# EAGLE library part MM7150 (library kotuku)
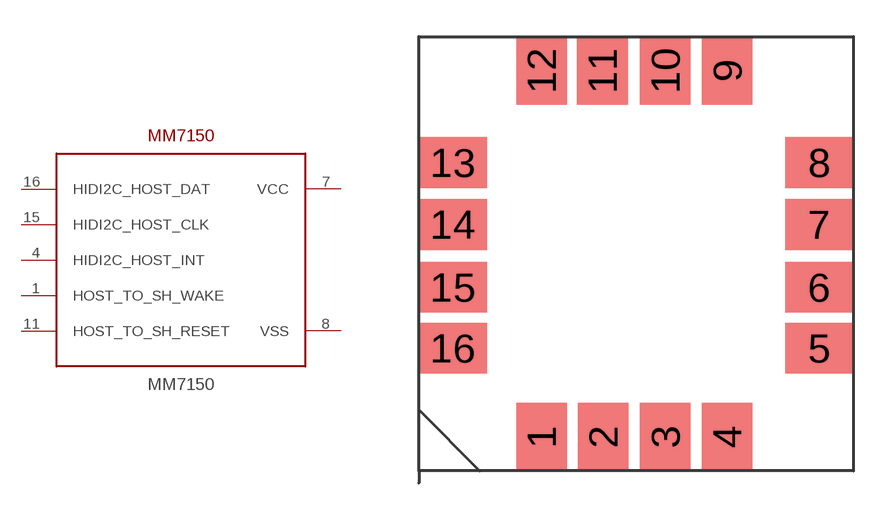
[diagram p1: symbol with the pads of MM7150; footprint MM7150]

Designator prefix -

## MM7150  [MM7150]
1  HOST_TO_SH_WAKE
4  HIDI2C_HOST_INT
7  VCC
8  VSS
11  HOST_TO_SH_RESET
15  HIDI2C_HOST_CLK
16  HIDI2C_HOST_DAT

## Footprint MM7150 (pad centres in mm)
smd 2.08 x 2.8: 1 5.04,1.4; 2 7.57,1.4; 3 10.12,1.4; 4 12.66,1.4; 9 12.66,16.44; 10 10.12,16.44; 11 7.54,16.44; 12 5.04,16.44
smd 2.8 x 2.08: 5 16.44,5.04; 6 16.44,7.54; 7 16.44,10.12; 8 16.44,12.66; 13 1.4,12.66; 14 1.4,10.12; 15 1.4,7.54; 16 1.4,5.04